# Altium integrated library TI Converter CODEC Voice-Band.IntLib: 99 symbols (part 6 of 7)
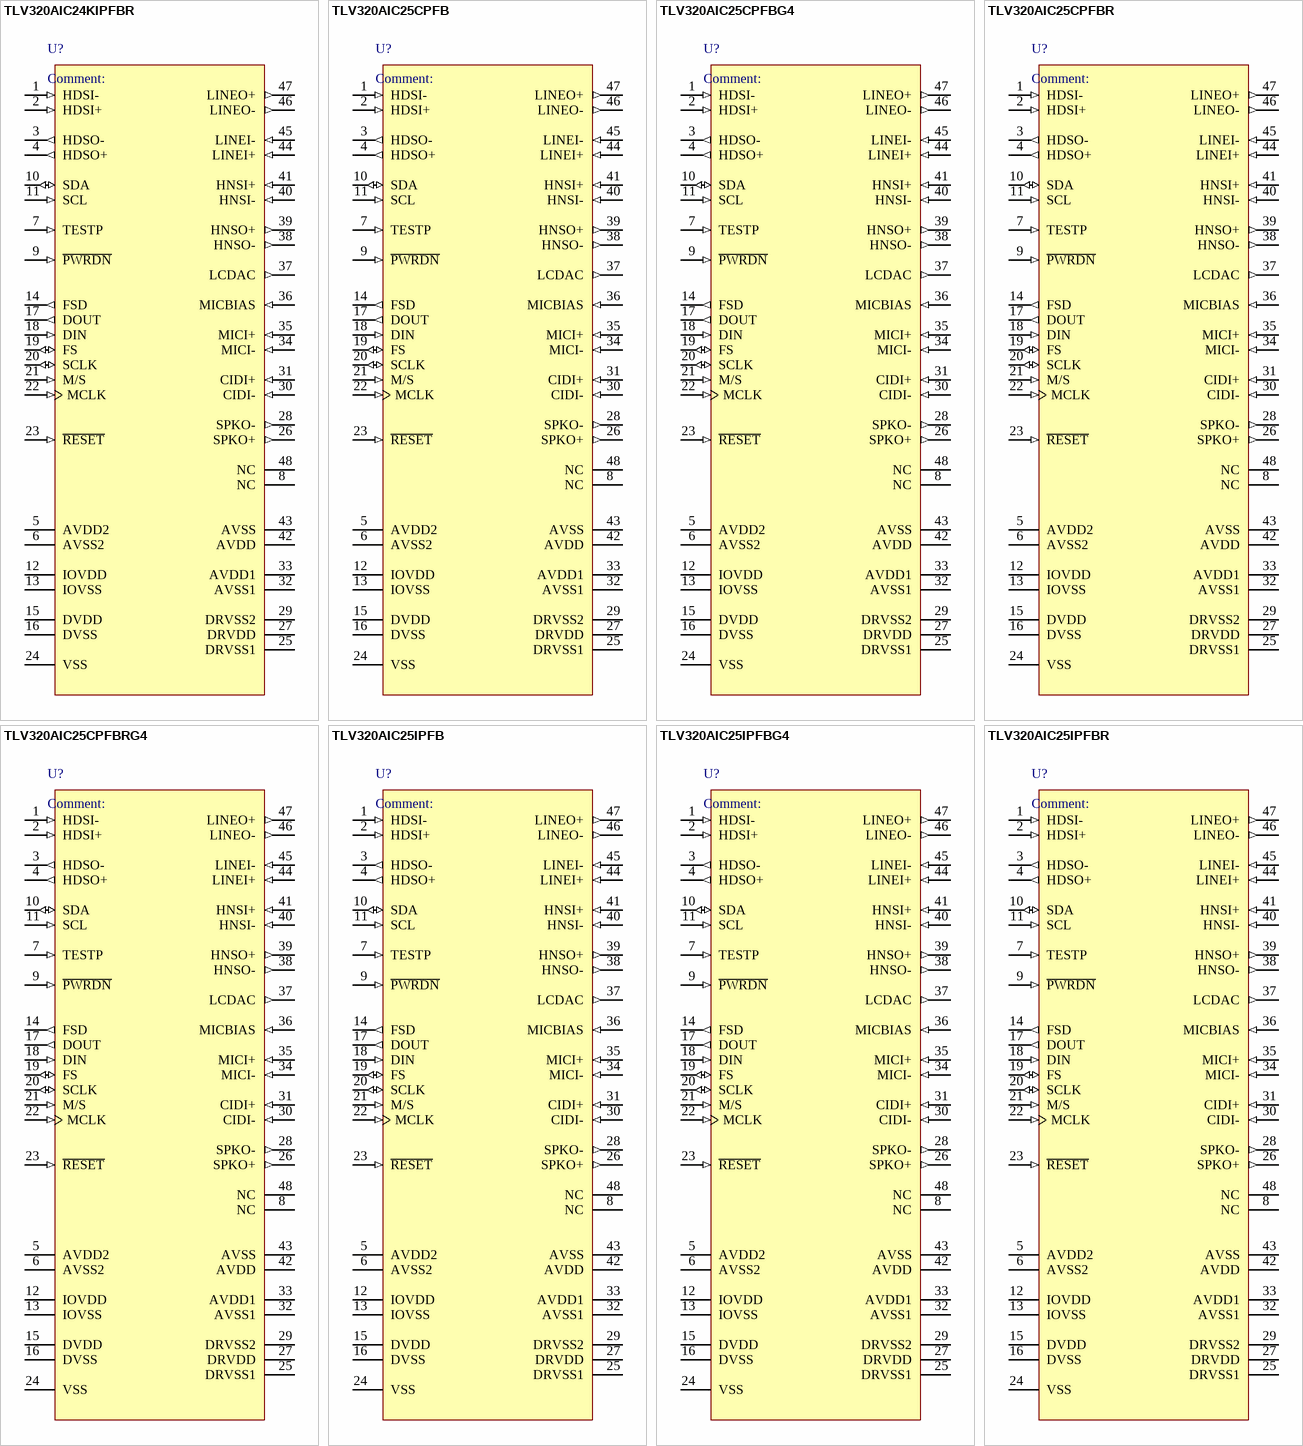
[diagram p14: symbols TLV320AIC24KIPFBR to TLV320AIC25IPFBR]

## TLV320AIC25CPFBRG4
designator U?
Low-Power, Highly-Integrated, Programmable 16-Bit, 26-KSPS Dual-Channel CODEC, 48-Pin TQFP, Commerical Grade; Published: 16-Dec-2005; LatestRevisionDate: 13-Apr-2006; LatestRevisionNote: IPC-7351 Footprint Added.; DatasheetVersion: 13-Sep-2005; PackageVersion: Jan-1998; PackageReference: PFB48; Publisher: Altium Limited; PackageDescription: 48-Pin Thin Plastic Quad Flat Pack 0.5 mm Pitch; Code_JEDEC: MS-026; ComponentLink1Description: Manufacturer Link; ComponentLink1URL: http://www.ti.com/; ComponentLink2Description: Datasheet; ComponentLink2URL: http://focus.ti.com/lit/ds/symlink/tlv320aic25.pdf
footprint PFB48_N (Thin QFP, 48-Leads, Body 7x7mm, Pitch 0.5mm, IPC Medium Density)
footprint PFB48_L (Thin QFP, 48-Leads, Body 7x7mm, Pitch 0.5mm, IPC High Density)
footprint PFB48_M (Thin QFP, 48-Leads, Body 7x7mm, Pitch 0.5mm, IPC Low Density)
pins: 1 HDSI- (in) "Head-set input. The Head-set input can be treated similar to the Line-input pins", 2 HDSI+ (in) "Head-set input. The Head-set input can be treated similar to the Line-input pins", 3 HDSO- (out) "150W output", 4 HDSO+ (out) "150W output", 5 AVDD2 (power) "Analog power supply", 6 AVSS2 (power) "Analog ground", 7 TESTP (in) "Test pin. Should be connected to digital ground.", 8 NC "Not connected", 9 ~{PWRDN} (in) "Power down", 10 SDA (io) "I2C/S2C data", 11 SCL (in) "I2C/S2C clock", 12 IOVDD (power) "I/O power supply", 13 IOVSS (power) "I/O ground", 14 FSD (out) "Frame sync delayed", 15 DVDD (power) "Digital supply (1.8 V)", 16 DVSS (power) "Digital ground", 17 DOUT (out) "Data OUT", 18 DIN (in) "Data IN", 19 FS (io) "Frame sync", 20 SCLK (io) "Serial clock", 21 M/S (in) "Master slave select applied to CODEC1 only. CODEC2 is always a slave.", 22 MCLK (in) "Master clock", 23 ~{RESET} (in) "Reset", 24 VSS (power) "Device ground. Typically this should be connected to the Analog Ground.", 25 DRVSS1 (power) "Driver ground", 26 SPKO+ (out) "8W output", 27 DRVDD (power) "Driver supply", 28 SPKO- (out) "8W output", 29 DRVSS2 (power) "Driver ground", 30 CIDI- (in) "Caller-ID input. The Caller-ID input can be treated similar to the Line-input pins", 31 CIDI+ (in) "Caller-ID input. The Caller-ID input can be treated similar to the Line-input pins", 32 AVSS1 (power) "Analog ground", 33 AVDD1 (power) "Analog supply", 34 MICI- (in) "Microphone input", 35 MICI+ (in) "Microphone input", 36 MICBIAS (in) "Microphone bias", 37 LCDAC (out) "6-Bit DAC output may be used to drive LCDAC", 38 HNSO- (out) "150-W output", 39 HNSO+ (out) "150-W output", 40 HNSI- (in) "Hand-set input. The Hand-set input can be treated similar to the Line-input pins", 41 HNSI+ (in) "Hand-set input. The Hand-set input can be treated similar to the Line-input pins", 42 AVDD (power) "Analog supply", 43 AVSS (power) "Analog ground", 44 LINEI+ (in) "Line input", 45 LINEI- (in) "Line input", 46 LINEO- (out) "600W output", 47 LINEO+ (out) "600W output", 48 NC "Not connected"

## TLV320AIC25IPFB
designator U?
Low-Power, Highly-Integrated, Programmable 16-Bit, 26-KSPS Dual-Channel CODEC, 48-Pin TQFP, Industrial Grade; Published: 16-Dec-2005; LatestRevisionDate: 13-Apr-2006; LatestRevisionNote: IPC-7351 Footprint Added.; DatasheetVersion: 13-Sep-2005; PackageVersion: Jan-1998; PackageReference: PFB48; Publisher: Altium Limited; PackageDescription: 48-Pin Thin Plastic Quad Flat Pack 0.5 mm Pitch; Code_JEDEC: MS-026; ComponentLink1Description: Manufacturer Link; ComponentLink1URL: http://www.ti.com/; ComponentLink2Description: Datasheet; ComponentLink2URL: http://focus.ti.com/lit/ds/symlink/tlv320aic25.pdf
footprint PFB48_N (Thin QFP, 48-Leads, Body 7x7mm, Pitch 0.5mm, IPC Medium Density)
footprint PFB48_L (Thin QFP, 48-Leads, Body 7x7mm, Pitch 0.5mm, IPC High Density)
footprint PFB48_M (Thin QFP, 48-Leads, Body 7x7mm, Pitch 0.5mm, IPC Low Density)
pins: 1 HDSI- (in) "Head-set input. The Head-set input can be treated similar to the Line-input pins", 2 HDSI+ (in) "Head-set input. The Head-set input can be treated similar to the Line-input pins", 3 HDSO- (out) "150W output", 4 HDSO+ (out) "150W output", 5 AVDD2 (power) "Analog power supply", 6 AVSS2 (power) "Analog ground", 7 TESTP (in) "Test pin. Should be connected to digital ground.", 8 NC "Not connected", 9 ~{PWRDN} (in) "Power down", 10 SDA (io) "I2C/S2C data", 11 SCL (in) "I2C/S2C clock", 12 IOVDD (power) "I/O power supply", 13 IOVSS (power) "I/O ground", 14 FSD (out) "Frame sync delayed", 15 DVDD (power) "Digital supply (1.8 V)", 16 DVSS (power) "Digital ground", 17 DOUT (out) "Data OUT", 18 DIN (in) "Data IN", 19 FS (io) "Frame sync", 20 SCLK (io) "Serial clock", 21 M/S (in) "Master slave select applied to CODEC1 only. CODEC2 is always a slave.", 22 MCLK (in) "Master clock", 23 ~{RESET} (in) "Reset", 24 VSS (power) "Device ground. Typically this should be connected to the Analog Ground.", 25 DRVSS1 (power) "Driver ground", 26 SPKO+ (out) "8W output", 27 DRVDD (power) "Driver supply", 28 SPKO- (out) "8W output", 29 DRVSS2 (power) "Driver ground", 30 CIDI- (in) "Caller-ID input. The Caller-ID input can be treated similar to the Line-input pins", 31 CIDI+ (in) "Caller-ID input. The Caller-ID input can be treated similar to the Line-input pins", 32 AVSS1 (power) "Analog ground", 33 AVDD1 (power) "Analog supply", 34 MICI- (in) "Microphone input", 35 MICI+ (in) "Microphone input", 36 MICBIAS (in) "Microphone bias", 37 LCDAC (out) "6-Bit DAC output may be used to drive LCDAC", 38 HNSO- (out) "150-W output", 39 HNSO+ (out) "150-W output", 40 HNSI- (in) "Hand-set input. The Hand-set input can be treated similar to the Line-input pins", 41 HNSI+ (in) "Hand-set input. The Hand-set input can be treated similar to the Line-input pins", 42 AVDD (power) "Analog supply", 43 AVSS (power) "Analog ground", 44 LINEI+ (in) "Line input", 45 LINEI- (in) "Line input", 46 LINEO- (out) "600W output", 47 LINEO+ (out) "600W output", 48 NC "Not connected"

## TLV320AIC25IPFBG4
designator U?
Low-Power, Highly-Integrated, Programmable 16-Bit, 26-KSPS Dual-Channel CODEC, 48-Pin TQFP, Industrial Grade; Published: 16-Dec-2005; LatestRevisionDate: 13-Apr-2006; LatestRevisionNote: IPC-7351 Footprint Added.; DatasheetVersion: 13-Sep-2005; PackageVersion: Jan-1998; PackageReference: PFB48; Publisher: Altium Limited; PackageDescription: 48-Pin Thin Plastic Quad Flat Pack 0.5 mm Pitch; Code_JEDEC: MS-026; ComponentLink1Description: Manufacturer Link; ComponentLink1URL: http://www.ti.com/; ComponentLink2Description: Datasheet; ComponentLink2URL: http://focus.ti.com/lit/ds/symlink/tlv320aic25.pdf
footprint PFB48_N (Thin QFP, 48-Leads, Body 7x7mm, Pitch 0.5mm, IPC Medium Density)
footprint PFB48_L (Thin QFP, 48-Leads, Body 7x7mm, Pitch 0.5mm, IPC High Density)
footprint PFB48_M (Thin QFP, 48-Leads, Body 7x7mm, Pitch 0.5mm, IPC Low Density)
pins: 1 HDSI- (in) "Head-set input. The Head-set input can be treated similar to the Line-input pins", 2 HDSI+ (in) "Head-set input. The Head-set input can be treated similar to the Line-input pins", 3 HDSO- (out) "150W output", 4 HDSO+ (out) "150W output", 5 AVDD2 (power) "Analog power supply", 6 AVSS2 (power) "Analog ground", 7 TESTP (in) "Test pin. Should be connected to digital ground.", 8 NC "Not connected", 9 ~{PWRDN} (in) "Power down", 10 SDA (io) "I2C/S2C data", 11 SCL (in) "I2C/S2C clock", 12 IOVDD (power) "I/O power supply", 13 IOVSS (power) "I/O ground", 14 FSD (out) "Frame sync delayed", 15 DVDD (power) "Digital supply (1.8 V)", 16 DVSS (power) "Digital ground", 17 DOUT (out) "Data OUT", 18 DIN (in) "Data IN", 19 FS (io) "Frame sync", 20 SCLK (io) "Serial clock", 21 M/S (in) "Master slave select applied to CODEC1 only. CODEC2 is always a slave.", 22 MCLK (in) "Master clock", 23 ~{RESET} (in) "Reset", 24 VSS (power) "Device ground. Typically this should be connected to the Analog Ground.", 25 DRVSS1 (power) "Driver ground", 26 SPKO+ (out) "8W output", 27 DRVDD (power) "Driver supply", 28 SPKO- (out) "8W output", 29 DRVSS2 (power) "Driver ground", 30 CIDI- (in) "Caller-ID input. The Caller-ID input can be treated similar to the Line-input pins", 31 CIDI+ (in) "Caller-ID input. The Caller-ID input can be treated similar to the Line-input pins", 32 AVSS1 (power) "Analog ground", 33 AVDD1 (power) "Analog supply", 34 MICI- (in) "Microphone input", 35 MICI+ (in) "Microphone input", 36 MICBIAS (in) "Microphone bias", 37 LCDAC (out) "6-Bit DAC output may be used to drive LCDAC", 38 HNSO- (out) "150-W output", 39 HNSO+ (out) "150-W output", 40 HNSI- (in) "Hand-set input. The Hand-set input can be treated similar to the Line-input pins", 41 HNSI+ (in) "Hand-set input. The Hand-set input can be treated similar to the Line-input pins", 42 AVDD (power) "Analog supply", 43 AVSS (power) "Analog ground", 44 LINEI+ (in) "Line input", 45 LINEI- (in) "Line input", 46 LINEO- (out) "600W output", 47 LINEO+ (out) "600W output", 48 NC "Not connected"

## TLV320AIC25IPFBR
designator U?
Low-Power, Highly-Integrated, Programmable 16-Bit, 26-KSPS Dual-Channel CODEC, 48-Pin TQFP, Industrial Grade; Published: 16-Dec-2005; LatestRevisionDate: 13-Apr-2006; LatestRevisionNote: IPC-7351 Footprint Added.; DatasheetVersion: 13-Sep-2005; PackageVersion: Jan-1998; PackageReference: PFB48; Publisher: Altium Limited; PackageDescription: 48-Pin Thin Plastic Quad Flat Pack 0.5 mm Pitch; Code_JEDEC: MS-026; ComponentLink1Description: Manufacturer Link; ComponentLink1URL: http://www.ti.com/; ComponentLink2Description: Datasheet; ComponentLink2URL: http://focus.ti.com/lit/ds/symlink/tlv320aic25.pdf
footprint PFB48_N (Thin QFP, 48-Leads, Body 7x7mm, Pitch 0.5mm, IPC Medium Density)
footprint PFB48_L (Thin QFP, 48-Leads, Body 7x7mm, Pitch 0.5mm, IPC High Density)
footprint PFB48_M (Thin QFP, 48-Leads, Body 7x7mm, Pitch 0.5mm, IPC Low Density)
pins: 1 HDSI- (in) "Head-set input. The Head-set input can be treated similar to the Line-input pins", 2 HDSI+ (in) "Head-set input. The Head-set input can be treated similar to the Line-input pins", 3 HDSO- (out) "150W output", 4 HDSO+ (out) "150W output", 5 AVDD2 (power) "Analog power supply", 6 AVSS2 (power) "Analog ground", 7 TESTP (in) "Test pin. Should be connected to digital ground.", 8 NC "Not connected", 9 ~{PWRDN} (in) "Power down", 10 SDA (io) "I2C/S2C data", 11 SCL (in) "I2C/S2C clock", 12 IOVDD (power) "I/O power supply", 13 IOVSS (power) "I/O ground", 14 FSD (out) "Frame sync delayed", 15 DVDD (power) "Digital supply (1.8 V)", 16 DVSS (power) "Digital ground", 17 DOUT (out) "Data OUT", 18 DIN (in) "Data IN", 19 FS (io) "Frame sync", 20 SCLK (io) "Serial clock", 21 M/S (in) "Master slave select applied to CODEC1 only. CODEC2 is always a slave.", 22 MCLK (in) "Master clock", 23 ~{RESET} (in) "Reset", 24 VSS (power) "Device ground. Typically this should be connected to the Analog Ground.", 25 DRVSS1 (power) "Driver ground", 26 SPKO+ (out) "8W output", 27 DRVDD (power) "Driver supply", 28 SPKO- (out) "8W output", 29 DRVSS2 (power) "Driver ground", 30 CIDI- (in) "Caller-ID input. The Caller-ID input can be treated similar to the Line-input pins", 31 CIDI+ (in) "Caller-ID input. The Caller-ID input can be treated similar to the Line-input pins", 32 AVSS1 (power) "Analog ground", 33 AVDD1 (power) "Analog supply", 34 MICI- (in) "Microphone input", 35 MICI+ (in) "Microphone input", 36 MICBIAS (in) "Microphone bias", 37 LCDAC (out) "6-Bit DAC output may be used to drive LCDAC", 38 HNSO- (out) "150-W output", 39 HNSO+ (out) "150-W output", 40 HNSI- (in) "Hand-set input. The Hand-set input can be treated similar to the Line-input pins", 41 HNSI+ (in) "Hand-set input. The Hand-set input can be treated similar to the Line-input pins", 42 AVDD (power) "Analog supply", 43 AVSS (power) "Analog ground", 44 LINEI+ (in) "Line input", 45 LINEI- (in) "Line input", 46 LINEO- (out) "600W output", 47 LINEO+ (out) "600W output", 48 NC "Not connected"

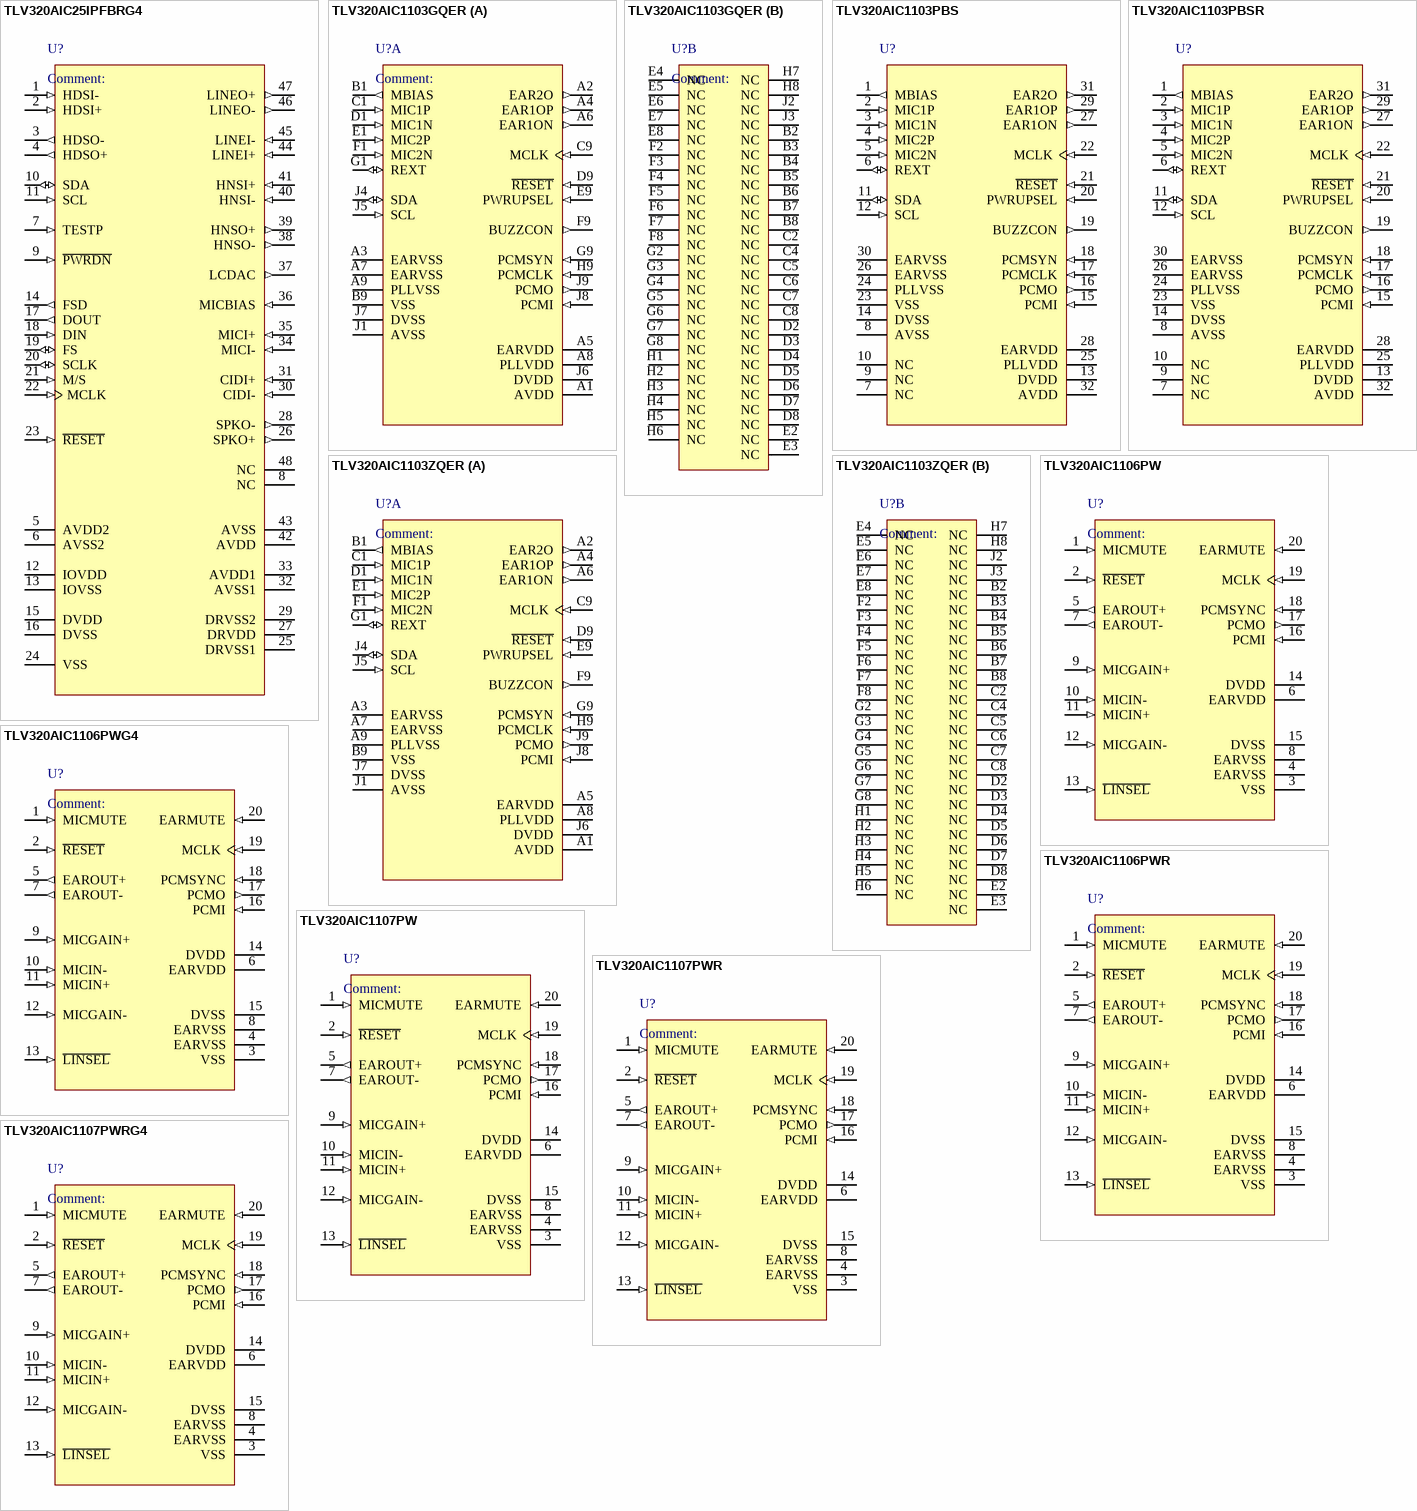
[diagram p8: symbols TLV320AIC25IPFBRG4 to TLV320AIC1107PWRG4]

## TLV320AIC25IPFBRG4
designator U?
Low-Power, Highly-Integrated, Programmable 16-Bit, 26-KSPS Dual-Channel CODEC, 48-Pin TQFP, Industrial Grade; Published: 16-Dec-2005; LatestRevisionDate: 13-Apr-2006; LatestRevisionNote: IPC-7351 Footprint Added.; DatasheetVersion: 13-Sep-2005; PackageVersion: Jan-1998; PackageReference: PFB48; Publisher: Altium Limited; PackageDescription: 48-Pin Thin Plastic Quad Flat Pack 0.5 mm Pitch; Code_JEDEC: MS-026; ComponentLink1Description: Manufacturer Link; ComponentLink1URL: http://www.ti.com/; ComponentLink2Description: Datasheet; ComponentLink2URL: http://focus.ti.com/lit/ds/symlink/tlv320aic25.pdf
footprint PFB48_N (Thin QFP, 48-Leads, Body 7x7mm, Pitch 0.5mm, IPC Medium Density)
footprint PFB48_L (Thin QFP, 48-Leads, Body 7x7mm, Pitch 0.5mm, IPC High Density)
footprint PFB48_M (Thin QFP, 48-Leads, Body 7x7mm, Pitch 0.5mm, IPC Low Density)
pins: 1 HDSI- (in) "Head-set input. The Head-set input can be treated similar to the Line-input pins", 2 HDSI+ (in) "Head-set input. The Head-set input can be treated similar to the Line-input pins", 3 HDSO- (out) "150W output", 4 HDSO+ (out) "150W output", 5 AVDD2 (power) "Analog power supply", 6 AVSS2 (power) "Analog ground", 7 TESTP (in) "Test pin. Should be connected to digital ground.", 8 NC "Not connected", 9 ~{PWRDN} (in) "Power down", 10 SDA (io) "I2C/S2C data", 11 SCL (in) "I2C/S2C clock", 12 IOVDD (power) "I/O power supply", 13 IOVSS (power) "I/O ground", 14 FSD (out) "Frame sync delayed", 15 DVDD (power) "Digital supply (1.8 V)", 16 DVSS (power) "Digital ground", 17 DOUT (out) "Data OUT", 18 DIN (in) "Data IN", 19 FS (io) "Frame sync", 20 SCLK (io) "Serial clock", 21 M/S (in) "Master slave select applied to CODEC1 only. CODEC2 is always a slave.", 22 MCLK (in) "Master clock", 23 ~{RESET} (in) "Reset", 24 VSS (power) "Device ground. Typically this should be connected to the Analog Ground.", 25 DRVSS1 (power) "Driver ground", 26 SPKO+ (out) "8W output", 27 DRVDD (power) "Driver supply", 28 SPKO- (out) "8W output", 29 DRVSS2 (power) "Driver ground", 30 CIDI- (in) "Caller-ID input. The Caller-ID input can be treated similar to the Line-input pins", 31 CIDI+ (in) "Caller-ID input. The Caller-ID input can be treated similar to the Line-input pins", 32 AVSS1 (power) "Analog ground", 33 AVDD1 (power) "Analog supply", 34 MICI- (in) "Microphone input", 35 MICI+ (in) "Microphone input", 36 MICBIAS (in) "Microphone bias", 37 LCDAC (out) "6-Bit DAC output may be used to drive LCDAC", 38 HNSO- (out) "150-W output", 39 HNSO+ (out) "150-W output", 40 HNSI- (in) "Hand-set input. The Hand-set input can be treated similar to the Line-input pins", 41 HNSI+ (in) "Hand-set input. The Hand-set input can be treated similar to the Line-input pins", 42 AVDD (power) "Analog supply", 43 AVSS (power) "Analog ground", 44 LINEI+ (in) "Line input", 45 LINEI- (in) "Line input", 46 LINEO- (out) "600W output", 47 LINEO+ (out) "600W output", 48 NC "Not connected"

## TLV320AIC1103GQER
designator U?
Programmable PCM CODEC With Microphone Amps & Speaker Driver, 80-pin MicroStar Junior VFBGA; Published: 16-Dec-2005; LatestRevisionDate: 13-Apr-2006; LatestRevisionNote: IPC-7351 Footprint Added.; DatasheetVersion: 03-May-2005; PackageVersion: Oct-2005; PackageReference: GQE80; Publisher: Altium Limited; PackageDescription: 80-Ball Plastic Ball Grid Array 0.5 mm Pitch; Code_JEDEC: MO-225; ComponentLink1Description: Manufacturer Link; ComponentLink1URL: http://www.ti.com/; ComponentLink2Description: Datasheet; ComponentLink2URL: http://focus.ti.com/lit/ds/symlink/tlv320aic1103.pdf
footprint GQE80 (BGA, 80-Leads, Body 5x5mm, Pitch 0.5mm)
part A pins: A1 AVDD (power) "Analog positive power supply", A2 EAR2O (out) "Earphone 2 amplifier output", A3 EARVSS (power) "Analog negative power supply for the earphone amplifiers", A4 EAR1OP (out) "Earphone 1 amplifier output (+)", A5 EARVDD (power) "Analog positive power supply for the earphone amplifiers", A6 EAR1ON (out) "Earphone 1 amplifier output (-)", A7 EARVSS (power) "Analog negative power supply for the earphone amplifiers", A8 PLLVDD (power) "PLL digital power supply", A9 PLLVSS (power) "PLL negative power supply", B1 MBIAS (out) "Microphone bias supply output, no decoupling capacitors", B9 VSS (power) "Ground return for bandgap internal reference", C1 MIC1P (in) "MIC1 input (+)", C9 MCLK (in) "Master system clock input (2.048 MHz) (digital)", D1 MIC1N (in) "MIC1 input (-)", D9 ~{RESET} (in) "Active low reset", E1 MIC2P (in) "MIC2 input (+)", E9 PWRUPSEL (in) "Selects the power-up default mode", F1 MIC2N (in) "MIC2 input (-)", F9 BUZZCON (out) "Buzzer output, a pulse-density modulated signal to apply to external buzzer driver", G1 REXT (io) "Internal reference current setting terminal", G9 PCMSYN (in) "PCM frame synchronization", H9 PCMCLK (in) "PCM data clock", J1 AVSS (power) "Analog negative power supply", J4 SDA (io) "I2C-bus serial address/data input/output", J5 SCL (in) "I2C-bus serial clock", J6 DVDD (power) "Digital positive power supply", J7 DVSS (power) "Digital negative power supply", J8 PCMI (in) "Receive PCM input", J9 PCMO (out) "Transmit PCM output"
part B pins: B2 NC "No connection", B3 NC "No connection", B4 NC "No connection", B5 NC "No connection", B6 NC "No connection", B7 NC "No connection", B8 NC "No connection", C2 NC "No connection", C4 NC "No connection", C5 NC "No connection", C6 NC "No connection", C7 NC "No connection", C8 NC "No connection", D2 NC "No connection", D3 NC "No connection", D4 NC "No connection", D5 NC "No connection", D6 NC "No connection", D7 NC "No connection", D8 NC "No connection", E2 NC "No connection", E3 NC "No connection", E4 NC "No connection", E5 NC "No connection", E6 NC "No connection", E7 NC "No connection", E8 NC "No connection", F2 NC "No connection", F3 NC "No connection", F4 NC "No connection", F5 NC "No connection", F6 NC "No connection", F7 NC "No connection", F8 NC "No connection", G2 NC "No connection", G3 NC "No connection", G4 NC "No connection", G5 NC "No connection", G6 NC "No connection", G7 NC "No connection", G8 NC "No connection", H1 NC "No connection", H2 NC "No connection", H3 NC "No connection", H4 NC "No connection", H5 NC "No connection", H6 NC "No connection", H7 NC "No connection", H8 NC "No connection", J2 NC "No connection", J3 NC "No connection"

## TLV320AIC1103PBS
designator U?
Programmable PCM CODEC With Microphone Amps & Speaker Driver, 32-Pin TQFP; Published: 16-Dec-2005; LatestRevisionDate: 13-Apr-2006; LatestRevisionNote: IPC-7351 Footprint Added.; DatasheetVersion: 03-May-2005; PackageVersion: Nov-1995; PackageReference: PBS32; Publisher: Altium Limited; PackageDescription: 32-Pin Thin Plastic Quad Flat Pack 0.5 mm Pitch; Code_JEDEC: MS-026-AAA; ComponentLink1Description: Manufacturer Link; ComponentLink1URL: http://www.ti.com/; ComponentLink2Description: Datasheet; ComponentLink2URL: http://focus.ti.com/lit/ds/symlink/tlv320aic1103.pdf
footprint PBS32_N (Thin QFP, 32-Leads, Body 5x5mm, Pitch 0.5mm, IPC Medium Density)
footprint PBS32_L (Thin QFP, 32-Leads, Body 5x5mm, Pitch 0.5mm, IPC High Density)
footprint PBS32_M (Thin QFP, 32-Leads, Body 5x5mm, Pitch 0.5mm, IPC Low Density)
pins: 1 MBIAS (out) "Microphone bias supply output, no decoupling capacitors", 2 MIC1P (in) "MIC1 input (+)", 3 MIC1N (in) "MIC1 input (-)", 4 MIC2P (in) "MIC2 input (+)", 5 MIC2N (in) "MIC2 input (-)", 6 REXT (io) "Internal reference current setting terminal", 7 NC "No connection", 8 AVSS (power) "Analog negative power supply", 9 NC "No connection", 10 NC "No connection", 11 SDA (io) "I2C-bus serial address/data input/output", 12 SCL (in) "I2C-bus serial clock", 13 DVDD (power) "Digital positive power supply", 14 DVSS (power) "Digital negative power supply", 15 PCMI (in) "Receive PCM input", 16 PCMO (out) "Transmit PCM output", 17 PCMCLK (in) "PCM data clock", 18 PCMSYN (in) "PCM frame synchronization", 19 BUZZCON (out) "Buzzer output, a pulse-density modulated signal to apply to external buzzer driver", 20 PWRUPSEL (in) "Selects the power-up default mode", 21 ~{RESET} (in) "Active low reset", 22 MCLK (in) "Master system clock input (2.048 MHz) (digital)", 23 VSS (power) "Ground return for bandgap internal reference", 24 PLLVSS (power) "PLL negative power supply", 25 PLLVDD (power) "PLL digital power supply", 26 EARVSS (power) "Analog negative power supply for the earphone amplifiers", 27 EAR1ON (out) "Earphone 1 amplifier output (-)", 28 EARVDD (power) "Analog positive power supply for the earphone amplifiers", 29 EAR1OP (out) "Earphone 1 amplifier output (+)", 30 EARVSS (power) "Analog negative power supply for the earphone amplifiers", 31 EAR2O (out) "Earphone 2 amplifier output", 32 AVDD (power) "Analog positive power supply"

## TLV320AIC1103PBSR
designator U?
Programmable PCM CODEC With Microphone Amps & Speaker Driver, 32-Pin TQFP; Published: 16-Dec-2005; LatestRevisionDate: 13-Apr-2006; LatestRevisionNote: IPC-7351 Footprint Added.; DatasheetVersion: 03-May-2005; PackageVersion: Nov-1995; PackageReference: PBS32; Publisher: Altium Limited; PackageDescription: 32-Pin Thin Plastic Quad Flat Pack 0.5 mm Pitch; Code_JEDEC: MS-026-AAA; ComponentLink1Description: Manufacturer Link; ComponentLink1URL: http://www.ti.com/; ComponentLink2Description: Datasheet; ComponentLink2URL: http://focus.ti.com/lit/ds/symlink/tlv320aic1103.pdf
footprint PBS32_N (Thin QFP, 32-Leads, Body 5x5mm, Pitch 0.5mm, IPC Medium Density)
footprint PBS32_L (Thin QFP, 32-Leads, Body 5x5mm, Pitch 0.5mm, IPC High Density)
footprint PBS32_M (Thin QFP, 32-Leads, Body 5x5mm, Pitch 0.5mm, IPC Low Density)
pins: 1 MBIAS (out) "Microphone bias supply output, no decoupling capacitors", 2 MIC1P (in) "MIC1 input (+)", 3 MIC1N (in) "MIC1 input (-)", 4 MIC2P (in) "MIC2 input (+)", 5 MIC2N (in) "MIC2 input (-)", 6 REXT (io) "Internal reference current setting terminal", 7 NC "No connection", 8 AVSS (power) "Analog negative power supply", 9 NC "No connection", 10 NC "No connection", 11 SDA (io) "I2C-bus serial address/data input/output", 12 SCL (in) "I2C-bus serial clock", 13 DVDD (power) "Digital positive power supply", 14 DVSS (power) "Digital negative power supply", 15 PCMI (in) "Receive PCM input", 16 PCMO (out) "Transmit PCM output", 17 PCMCLK (in) "PCM data clock", 18 PCMSYN (in) "PCM frame synchronization", 19 BUZZCON (out) "Buzzer output, a pulse-density modulated signal to apply to external buzzer driver", 20 PWRUPSEL (in) "Selects the power-up default mode", 21 ~{RESET} (in) "Active low reset", 22 MCLK (in) "Master system clock input (2.048 MHz) (digital)", 23 VSS (power) "Ground return for bandgap internal reference", 24 PLLVSS (power) "PLL negative power supply", 25 PLLVDD (power) "PLL digital power supply", 26 EARVSS (power) "Analog negative power supply for the earphone amplifiers", 27 EAR1ON (out) "Earphone 1 amplifier output (-)", 28 EARVDD (power) "Analog positive power supply for the earphone amplifiers", 29 EAR1OP (out) "Earphone 1 amplifier output (+)", 30 EARVSS (power) "Analog negative power supply for the earphone amplifiers", 31 EAR2O (out) "Earphone 2 amplifier output", 32 AVDD (power) "Analog positive power supply"

## TLV320AIC1103ZQER
designator U?
Programmable PCM CODEC With Microphone Amps & Speaker Driver, 80-pin MicroStar Junior VFBGA; Published: 16-Dec-2005; LatestRevisionDate: 13-Apr-2006; LatestRevisionNote: IPC-7351 Footprint Added.; DatasheetVersion: 03-May-2005; PackageVersion: Oct-2005; PackageReference: ZQE80; Publisher: Altium Limited; PackageDescription: 80-Ball Plastic Ball Grid Array 0.5 mm Pitch; Code_JEDEC: MO-225; ComponentLink1Description: Manufacturer Link; ComponentLink1URL: http://www.ti.com/; ComponentLink2Description: Datasheet; ComponentLink2URL: http://focus.ti.com/lit/ds/symlink/tlv320aic1103.pdf
footprint ZQE80 (BGA, 80-Leads, Body 5x5mm, Pitch 0.5mm)
part A pins: A1 AVDD (power) "Analog positive power supply", A2 EAR2O (out) "Earphone 2 amplifier output", A3 EARVSS (power) "Analog negative power supply for the earphone amplifiers", A4 EAR1OP (out) "Earphone 1 amplifier output (+)", A5 EARVDD (power) "Analog positive power supply for the earphone amplifiers", A6 EAR1ON (out) "Earphone 1 amplifier output (-)", A7 EARVSS (power) "Analog negative power supply for the earphone amplifiers", A8 PLLVDD (power) "PLL digital power supply", A9 PLLVSS (power) "PLL negative power supply", B1 MBIAS (out) "Microphone bias supply output, no decoupling capacitors", B9 VSS (power) "Ground return for bandgap internal reference", C1 MIC1P (in) "MIC1 input (+)", C9 MCLK (in) "Master system clock input (2.048 MHz) (digital)", D1 MIC1N (in) "MIC1 input (-)", D9 ~{RESET} (in) "Active low reset", E1 MIC2P (in) "MIC2 input (+)", E9 PWRUPSEL (in) "Selects the power-up default mode", F1 MIC2N (in) "MIC2 input (-)", F9 BUZZCON (out) "Buzzer output, a pulse-density modulated signal to apply to external buzzer driver", G1 REXT (io) "Internal reference current setting terminal", G9 PCMSYN (in) "PCM frame synchronization", H9 PCMCLK (in) "PCM data clock", J1 AVSS (power) "Analog negative power supply", J4 SDA (io) "I2C-bus serial address/data input/output", J5 SCL (in) "I2C-bus serial clock", J6 DVDD (power) "Digital positive power supply", J7 DVSS (power) "Digital negative power supply", J8 PCMI (in) "Receive PCM input", J9 PCMO (out) "Transmit PCM output"
part B pins: B2 NC "No connection", B3 NC "No connection", B4 NC "No connection", B5 NC "No connection", B6 NC "No connection", B7 NC "No connection", B8 NC "No connection", C2 NC "No connection", C4 NC "No connection", C5 NC "No connection", C6 NC "No connection", C7 NC "No connection", C8 NC "No connection", D2 NC "No connection", D3 NC "No connection", D4 NC "No connection", D5 NC "No connection", D6 NC "No connection", D7 NC "No connection", D8 NC "No connection", E2 NC "No connection", E3 NC "No connection", E4 NC "No connection", E5 NC "No connection", E6 NC "No connection", E7 NC "No connection", E8 NC "No connection", F2 NC "No connection", F3 NC "No connection", F4 NC "No connection", F5 NC "No connection", F6 NC "No connection", F7 NC "No connection", F8 NC "No connection", G2 NC "No connection", G3 NC "No connection", G4 NC "No connection", G5 NC "No connection", G6 NC "No connection", G7 NC "No connection", G8 NC "No connection", H1 NC "No connection", H2 NC "No connection", H3 NC "No connection", H4 NC "No connection", H5 NC "No connection", H6 NC "No connection", H7 NC "No connection", H8 NC "No connection", J2 NC "No connection", J3 NC "No connection"

## TLV320AIC1106PW
designator U?
PCM CODEC With Microphone Amps & Speaker Driver, 20-Pin TSSOP; Published: 16-Dec-2005; DatasheetVersion: 13-Sep-2005; PackageVersion: Feb-1999; PackageReference: PW020; Publisher: Altium Limited; PackageDescription: Shrink Small Outline; 20 Leads; Body Width 4.4 mm; Pitch 0.65 mm; ComponentLink1Description: Manufacturer Link; ComponentLink1URL: http://www.ti.com/; ComponentLink2Description: Datasheet; ComponentLink2URL: http://focus.ti.com/lit/ds/symlink/tlv320aic1106.pdf
footprint PW020 (Shrink Small Outline; 20 Leads; Body Width 4.4 mm; Pitch 0.65 mm)
pins: 1 MICMUTE (in) "Microphone mute", 2 ~{RESET} (in) "Active-low reset", 3 VSS (power) "Ground return for band-gap internal reference", 4 EARVSS (power) "Analog ground for EAROUT+", 5 EAROUT+ (out) "Earphone amplifier positive output", 6 EARVDD (power) "Analog positive power supply for the earphone amplifiers", 7 EAROUT- (out) "Earphone amplifier negative output", 8 EARVSS (power) "Analog ground for EAROUT-", 9 MICGAIN+ (in) "Microphone gain positive feedback", 10 MICIN- (in) "Microphone negative input (-)", 11 MICIN+ (in) "Microphone positive input (+)", 12 MICGAIN- (in) "Microphone gain negative feedback", 13 ~{LINSEL} (in) "Companding enable", 14 DVDD (power) "Digital positive power supply", 15 DVSS (power) "Digital negative power supply", 16 PCMI (in) "Receive PCM input", 17 PCMO (out) "Transmit PCM output", 18 PCMSYNC (in) "PCM frame synchronization", 19 MCLK (in) "Master system clock input (2.048 MHz) (digital)", 20 EARMUTE (in) "Earphone mute"

## TLV320AIC1106PWG4
designator U?
PCM CODEC With Microphone Amps & Speaker Driver, 20-Pin TSSOP; Published: 16-Dec-2005; DatasheetVersion: 13-Sep-2005; PackageVersion: Feb-1999; PackageReference: PW020; Publisher: Altium Limited; PackageDescription: Shrink Small Outline; 20 Leads; Body Width 4.4 mm; Pitch 0.65 mm; ComponentLink1Description: Manufacturer Link; ComponentLink1URL: http://www.ti.com/; ComponentLink2Description: Datasheet; ComponentLink2URL: http://focus.ti.com/lit/ds/symlink/tlv320aic1106.pdf
footprint PW020 (Shrink Small Outline; 20 Leads; Body Width 4.4 mm; Pitch 0.65 mm)
pins: 1 MICMUTE (in) "Microphone mute", 2 ~{RESET} (in) "Active-low reset", 3 VSS (power) "Ground return for band-gap internal reference", 4 EARVSS (power) "Analog ground for EAROUT+", 5 EAROUT+ (out) "Earphone amplifier positive output", 6 EARVDD (power) "Analog positive power supply for the earphone amplifiers", 7 EAROUT- (out) "Earphone amplifier negative output", 8 EARVSS (power) "Analog ground for EAROUT-", 9 MICGAIN+ (in) "Microphone gain positive feedback", 10 MICIN- (in) "Microphone negative input (-)", 11 MICIN+ (in) "Microphone positive input (+)", 12 MICGAIN- (in) "Microphone gain negative feedback", 13 ~{LINSEL} (in) "Companding enable", 14 DVDD (power) "Digital positive power supply", 15 DVSS (power) "Digital negative power supply", 16 PCMI (in) "Receive PCM input", 17 PCMO (out) "Transmit PCM output", 18 PCMSYNC (in) "PCM frame synchronization", 19 MCLK (in) "Master system clock input (2.048 MHz) (digital)", 20 EARMUTE (in) "Earphone mute"

## TLV320AIC1106PWR
designator U?
PCM CODEC With Microphone Amps & Speaker Driver, 20-Pin TSSOP; Published: 16-Dec-2005; DatasheetVersion: 13-Sep-2005; PackageVersion: Feb-1999; PackageReference: PW020; Publisher: Altium Limited; PackageDescription: Shrink Small Outline; 20 Leads; Body Width 4.4 mm; Pitch 0.65 mm; ComponentLink1Description: Manufacturer Link; ComponentLink1URL: http://www.ti.com/; ComponentLink2Description: Datasheet; ComponentLink2URL: http://focus.ti.com/lit/ds/symlink/tlv320aic1106.pdf
footprint PW020 (Shrink Small Outline; 20 Leads; Body Width 4.4 mm; Pitch 0.65 mm)
pins: 1 MICMUTE (in) "Microphone mute", 2 ~{RESET} (in) "Active-low reset", 3 VSS (power) "Ground return for band-gap internal reference", 4 EARVSS (power) "Analog ground for EAROUT+", 5 EAROUT+ (out) "Earphone amplifier positive output", 6 EARVDD (power) "Analog positive power supply for the earphone amplifiers", 7 EAROUT- (out) "Earphone amplifier negative output", 8 EARVSS (power) "Analog ground for EAROUT-", 9 MICGAIN+ (in) "Microphone gain positive feedback", 10 MICIN- (in) "Microphone negative input (-)", 11 MICIN+ (in) "Microphone positive input (+)", 12 MICGAIN- (in) "Microphone gain negative feedback", 13 ~{LINSEL} (in) "Companding enable", 14 DVDD (power) "Digital positive power supply", 15 DVSS (power) "Digital negative power supply", 16 PCMI (in) "Receive PCM input", 17 PCMO (out) "Transmit PCM output", 18 PCMSYNC (in) "PCM frame synchronization", 19 MCLK (in) "Master system clock input (2.048 MHz) (digital)", 20 EARMUTE (in) "Earphone mute"

## TLV320AIC1107PW
designator U?
PCM CODEC With Microphone Amps & Speaker Driver, 20-Pin TSSOP; Published: 16-Dec-2005; DatasheetVersion: 13-Sep-2005; PackageVersion: Feb-1999; PackageReference: PW020; Publisher: Altium Limited; PackageDescription: Shrink Small Outline; 20 Leads; Body Width 4.4 mm; Pitch 0.65 mm; ComponentLink1Description: Manufacturer Link; ComponentLink1URL: http://www.ti.com/; ComponentLink2Description: Datasheet; ComponentLink2URL: http://focus.ti.com/lit/ds/symlink/tlv320aic1107.pdf
footprint PW020 (Shrink Small Outline; 20 Leads; Body Width 4.4 mm; Pitch 0.65 mm)
pins: 1 MICMUTE (in) "Microphone mute", 2 ~{RESET} (in) "Active-low reset", 3 VSS (power) "Ground return for band-gap internal reference", 4 EARVSS (power) "Analog ground for EAROUT+", 5 EAROUT+ (out) "Earphone amplifier positive output", 6 EARVDD (power) "Analog positive power supply for the earphone amplifiers", 7 EAROUT- (out) "Earphone amplifier negative output", 8 EARVSS (power) "Analog ground for EAROUT-", 9 MICGAIN+ (in) "Microphone gain positive feedback", 10 MICIN- (in) "Microphone negative input (-)", 11 MICIN+ (in) "Microphone positive input (+)", 12 MICGAIN- (in) "Microphone gain negative feedback", 13 ~{LINSEL} (in) "Companding enable", 14 DVDD (power) "Digital positive power supply", 15 DVSS (power) "Digital negative power supply", 16 PCMI (in) "Receive PCM input", 17 PCMO (out) "Transmit PCM output", 18 PCMSYNC (in) "PCM frame synchronization", 19 MCLK (in) "Master system clock input (2.048 MHz) (digital)", 20 EARMUTE (in) "Earphone mute"

## TLV320AIC1107PWR
designator U?
PCM CODEC With Microphone Amps & Speaker Driver, 20-Pin TSSOP; Published: 16-Dec-2005; DatasheetVersion: 13-Sep-2005; PackageVersion: Feb-1999; PackageReference: PW020; Publisher: Altium Limited; PackageDescription: Shrink Small Outline; 20 Leads; Body Width 4.4 mm; Pitch 0.65 mm; ComponentLink1Description: Manufacturer Link; ComponentLink1URL: http://www.ti.com/; ComponentLink2Description: Datasheet; ComponentLink2URL: http://focus.ti.com/lit/ds/symlink/tlv320aic1107.pdf
footprint PW020 (Shrink Small Outline; 20 Leads; Body Width 4.4 mm; Pitch 0.65 mm)
pins: 1 MICMUTE (in) "Microphone mute", 2 ~{RESET} (in) "Active-low reset", 3 VSS (power) "Ground return for band-gap internal reference", 4 EARVSS (power) "Analog ground for EAROUT+", 5 EAROUT+ (out) "Earphone amplifier positive output", 6 EARVDD (power) "Analog positive power supply for the earphone amplifiers", 7 EAROUT- (out) "Earphone amplifier negative output", 8 EARVSS (power) "Analog ground for EAROUT-", 9 MICGAIN+ (in) "Microphone gain positive feedback", 10 MICIN- (in) "Microphone negative input (-)", 11 MICIN+ (in) "Microphone positive input (+)", 12 MICGAIN- (in) "Microphone gain negative feedback", 13 ~{LINSEL} (in) "Companding enable", 14 DVDD (power) "Digital positive power supply", 15 DVSS (power) "Digital negative power supply", 16 PCMI (in) "Receive PCM input", 17 PCMO (out) "Transmit PCM output", 18 PCMSYNC (in) "PCM frame synchronization", 19 MCLK (in) "Master system clock input (2.048 MHz) (digital)", 20 EARMUTE (in) "Earphone mute"

## TLV320AIC1107PWRG4
designator U?
PCM CODEC With Microphone Amps & Speaker Driver, 20-Pin TSSOP; Published: 16-Dec-2005; DatasheetVersion: 13-Sep-2005; PackageVersion: Feb-1999; PackageReference: PW020; Publisher: Altium Limited; PackageDescription: Shrink Small Outline; 20 Leads; Body Width 4.4 mm; Pitch 0.65 mm; ComponentLink1Description: Manufacturer Link; ComponentLink1URL: http://www.ti.com/; ComponentLink2Description: Datasheet; ComponentLink2URL: http://focus.ti.com/lit/ds/symlink/tlv320aic1107.pdf
footprint PW020 (Shrink Small Outline; 20 Leads; Body Width 4.4 mm; Pitch 0.65 mm)
pins: 1 MICMUTE (in) "Microphone mute", 2 ~{RESET} (in) "Active-low reset", 3 VSS (power) "Ground return for band-gap internal reference", 4 EARVSS (power) "Analog ground for EAROUT+", 5 EAROUT+ (out) "Earphone amplifier positive output", 6 EARVDD (power) "Analog positive power supply for the earphone amplifiers", 7 EAROUT- (out) "Earphone amplifier negative output", 8 EARVSS (power) "Analog ground for EAROUT-", 9 MICGAIN+ (in) "Microphone gain positive feedback", 10 MICIN- (in) "Microphone negative input (-)", 11 MICIN+ (in) "Microphone positive input (+)", 12 MICGAIN- (in) "Microphone gain negative feedback", 13 ~{LINSEL} (in) "Companding enable", 14 DVDD (power) "Digital positive power supply", 15 DVSS (power) "Digital negative power supply", 16 PCMI (in) "Receive PCM input", 17 PCMO (out) "Transmit PCM output", 18 PCMSYNC (in) "PCM frame synchronization", 19 MCLK (in) "Master system clock input (2.048 MHz) (digital)", 20 EARMUTE (in) "Earphone mute"

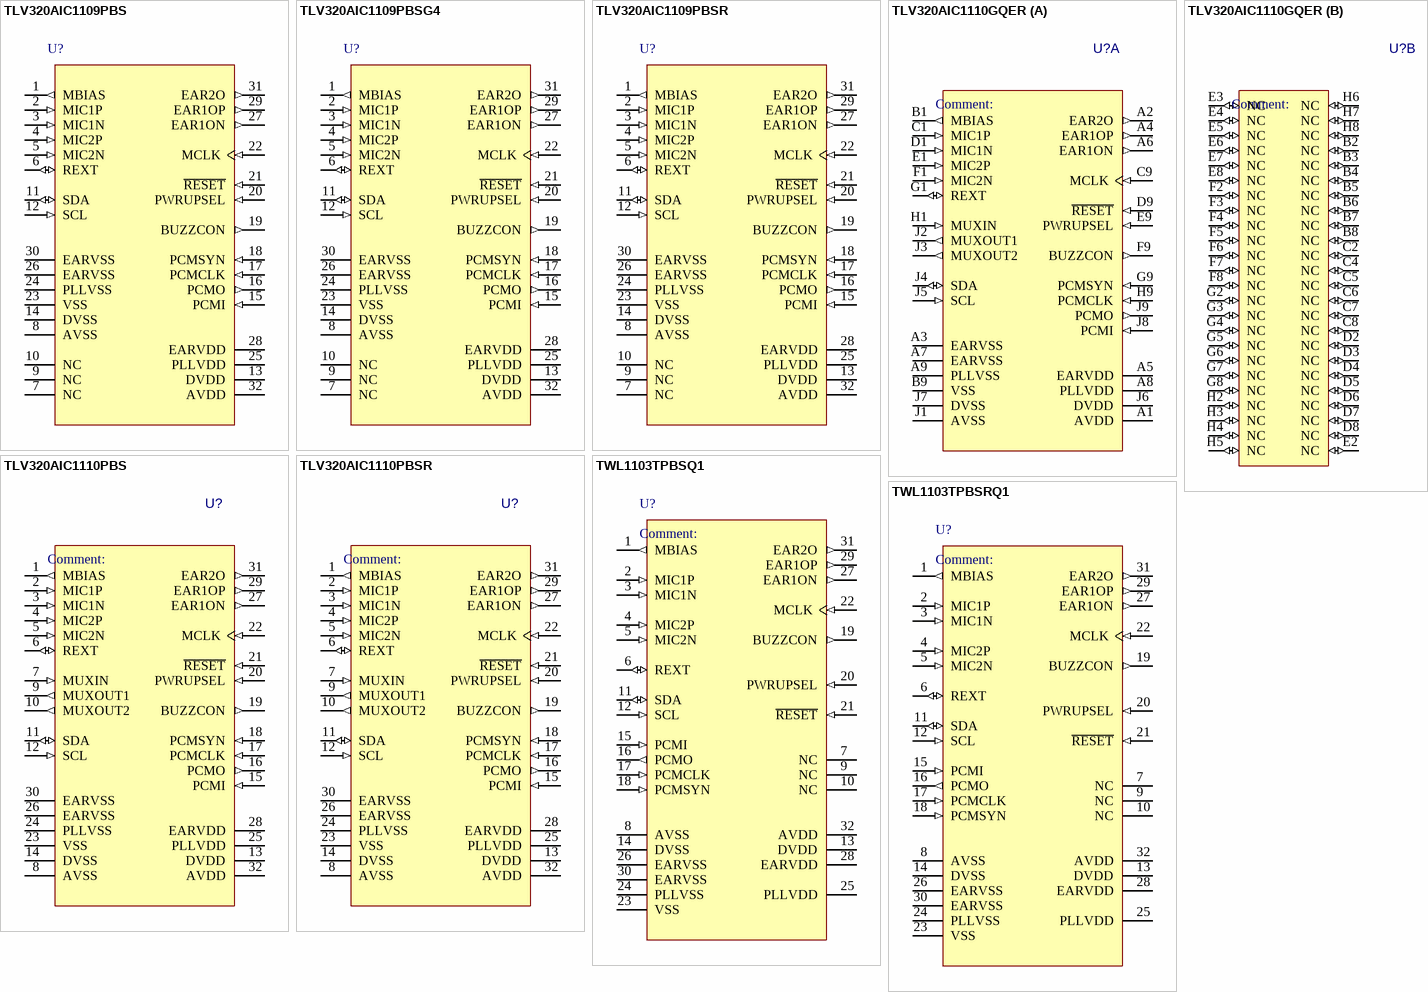
[diagram p9: symbols TLV320AIC1109PBS to TWL1103TPBSRQ1]

## TLV320AIC1109PBS
designator U?
Programmable PCM CODEC With Microphone Amps & Speaker Driver, 32-Pin TQFP; Published: 16-Dec-2005; LatestRevisionDate: 13-Apr-2006; LatestRevisionNote: IPC-7351 Footprint Added.; DatasheetVersion: 13-Sep-2005; PackageVersion: Nov-1995; PackageReference: PBS32; Publisher: Altium Limited; PackageDescription: 32-Pin Thin Plastic Quad Flat Pack 0.5 mm Pitch; Code_JEDEC: MS-026-AAA; ComponentLink1Description: Manufacturer Link; ComponentLink1URL: http://www.ti.com/; ComponentLink2Description: Datasheet; ComponentLink2URL: http://focus.ti.com/lit/ds/symlink/tlv320aic1109.pdf
footprint PBS32_N (Thin QFP, 32-Leads, Body 5x5mm, Pitch 0.5mm, IPC Medium Density)
footprint PBS32_L (Thin QFP, 32-Leads, Body 5x5mm, Pitch 0.5mm, IPC High Density)
footprint PBS32_M (Thin QFP, 32-Leads, Body 5x5mm, Pitch 0.5mm, IPC Low Density)
pins: 1 MBIAS (out) "Microphone bias supply output, no decoupling capacitors", 2 MIC1P (in) "MIC1 input (+)", 3 MIC1N (in) "MIC1 input (-)", 4 MIC2P (in) "MIC2 input (+)", 5 MIC2N (in) "MIC2 input (-)", 6 REXT (io) "Internal reference current setting terminal", 7 NC "No connection", 8 AVSS (power) "Analog negative power supply", 9 NC "No connection", 10 NC "No connection", 11 SDA (io) "I2C-bus serial address/data input/output", 12 SCL (in) "I2C-bus serial clock", 13 DVDD (power) "Digital positive power supply", 14 DVSS (power) "Digital negative power supply", 15 PCMI (in) "Receive PCM input", 16 PCMO (out) "Transmit PCM output", 17 PCMCLK (in) "PCM data clock", 18 PCMSYN (in) "PCM frame synchronization", 19 BUZZCON (out) "Buzzer output, a pulse-density modulated signal to apply to external buzzer driver", 20 PWRUPSEL (in) "Selects the power-up default mode", 21 ~{RESET} (in) "Active low reset", 22 MCLK (in) "Master system clock input (2.048 MHz) (digital)", 23 VSS (power) "Ground return for bandgap internal reference", 24 PLLVSS (power) "PLL negative power supply", 25 PLLVDD (power) "PLL digital power supply", 26 EARVSS (power) "Analog negative power supply for the earphone amplifiers", 27 EAR1ON (out) "Earphone 1 amplifier output (-)", 28 EARVDD (power) "Analog positive power supply for the earphone amplifiers", 29 EAR1OP (out) "Earphone 1 amplifier output (+)", 30 EARVSS (power) "Analog negative power supply for the earphone amplifiers", 31 EAR2O (out) "Earphone 2 amplifier output", 32 AVDD (power) "Analog positive power supply"

## TLV320AIC1109PBSG4
designator U?
Programmable PCM CODEC With Microphone Amps & Speaker Driver, 32-Pin TQFP; Published: 16-Dec-2005; LatestRevisionDate: 13-Apr-2006; LatestRevisionNote: IPC-7351 Footprint Added.; DatasheetVersion: 13-Sep-2005; PackageVersion: Nov-1995; PackageReference: PBS32; Publisher: Altium Limited; PackageDescription: 32-Pin Thin Plastic Quad Flat Pack 0.5 mm Pitch; Code_JEDEC: MS-026-AAA; ComponentLink1Description: Manufacturer Link; ComponentLink1URL: http://www.ti.com/; ComponentLink2Description: Datasheet; ComponentLink2URL: http://focus.ti.com/lit/ds/symlink/tlv320aic1109.pdf
footprint PBS32_N (Thin QFP, 32-Leads, Body 5x5mm, Pitch 0.5mm, IPC Medium Density)
footprint PBS32_L (Thin QFP, 32-Leads, Body 5x5mm, Pitch 0.5mm, IPC High Density)
footprint PBS32_M (Thin QFP, 32-Leads, Body 5x5mm, Pitch 0.5mm, IPC Low Density)
pins: 1 MBIAS (out) "Microphone bias supply output, no decoupling capacitors", 2 MIC1P (in) "MIC1 input (+)", 3 MIC1N (in) "MIC1 input (-)", 4 MIC2P (in) "MIC2 input (+)", 5 MIC2N (in) "MIC2 input (-)", 6 REXT (io) "Internal reference current setting terminal", 7 NC "No connection", 8 AVSS (power) "Analog negative power supply", 9 NC "No connection", 10 NC "No connection", 11 SDA (io) "I2C-bus serial address/data input/output", 12 SCL (in) "I2C-bus serial clock", 13 DVDD (power) "Digital positive power supply", 14 DVSS (power) "Digital negative power supply", 15 PCMI (in) "Receive PCM input", 16 PCMO (out) "Transmit PCM output", 17 PCMCLK (in) "PCM data clock", 18 PCMSYN (in) "PCM frame synchronization", 19 BUZZCON (out) "Buzzer output, a pulse-density modulated signal to apply to external buzzer driver", 20 PWRUPSEL (in) "Selects the power-up default mode", 21 ~{RESET} (in) "Active low reset", 22 MCLK (in) "Master system clock input (2.048 MHz) (digital)", 23 VSS (power) "Ground return for bandgap internal reference", 24 PLLVSS (power) "PLL negative power supply", 25 PLLVDD (power) "PLL digital power supply", 26 EARVSS (power) "Analog negative power supply for the earphone amplifiers", 27 EAR1ON (out) "Earphone 1 amplifier output (-)", 28 EARVDD (power) "Analog positive power supply for the earphone amplifiers", 29 EAR1OP (out) "Earphone 1 amplifier output (+)", 30 EARVSS (power) "Analog negative power supply for the earphone amplifiers", 31 EAR2O (out) "Earphone 2 amplifier output", 32 AVDD (power) "Analog positive power supply"

## TLV320AIC1109PBSR
designator U?
Programmable PCM CODEC With Microphone Amps & Speaker Driver, 32-Pin TQFP; Published: 16-Dec-2005; LatestRevisionDate: 13-Apr-2006; LatestRevisionNote: IPC-7351 Footprint Added.; DatasheetVersion: 13-Sep-2005; PackageVersion: Nov-1995; PackageReference: PBS32; Publisher: Altium Limited; PackageDescription: 32-Pin Thin Plastic Quad Flat Pack 0.5 mm Pitch; Code_JEDEC: MS-026-AAA; ComponentLink1Description: Manufacturer Link; ComponentLink1URL: http://www.ti.com/; ComponentLink2Description: Datasheet; ComponentLink2URL: http://focus.ti.com/lit/ds/symlink/tlv320aic1109.pdf
footprint PBS32_N (Thin QFP, 32-Leads, Body 5x5mm, Pitch 0.5mm, IPC Medium Density)
footprint PBS32_L (Thin QFP, 32-Leads, Body 5x5mm, Pitch 0.5mm, IPC High Density)
footprint PBS32_M (Thin QFP, 32-Leads, Body 5x5mm, Pitch 0.5mm, IPC Low Density)
pins: 1 MBIAS (out) "Microphone bias supply output, no decoupling capacitors", 2 MIC1P (in) "MIC1 input (+)", 3 MIC1N (in) "MIC1 input (-)", 4 MIC2P (in) "MIC2 input (+)", 5 MIC2N (in) "MIC2 input (-)", 6 REXT (io) "Internal reference current setting terminal", 7 NC "No connection", 8 AVSS (power) "Analog negative power supply", 9 NC "No connection", 10 NC "No connection", 11 SDA (io) "I2C-bus serial address/data input/output", 12 SCL (in) "I2C-bus serial clock", 13 DVDD (power) "Digital positive power supply", 14 DVSS (power) "Digital negative power supply", 15 PCMI (in) "Receive PCM input", 16 PCMO (out) "Transmit PCM output", 17 PCMCLK (in) "PCM data clock", 18 PCMSYN (in) "PCM frame synchronization", 19 BUZZCON (out) "Buzzer output, a pulse-density modulated signal to apply to external buzzer driver", 20 PWRUPSEL (in) "Selects the power-up default mode", 21 ~{RESET} (in) "Active low reset", 22 MCLK (in) "Master system clock input (2.048 MHz) (digital)", 23 VSS (power) "Ground return for bandgap internal reference", 24 PLLVSS (power) "PLL negative power supply", 25 PLLVDD (power) "PLL digital power supply", 26 EARVSS (power) "Analog negative power supply for the earphone amplifiers", 27 EAR1ON (out) "Earphone 1 amplifier output (-)", 28 EARVDD (power) "Analog positive power supply for the earphone amplifiers", 29 EAR1OP (out) "Earphone 1 amplifier output (+)", 30 EARVSS (power) "Analog negative power supply for the earphone amplifiers", 31 EAR2O (out) "Earphone 2 amplifier output", 32 AVDD (power) "Analog positive power supply"

## TLV320AIC1110GQER
designator U?
Programmable PCM CODEC With Microphone Amps & Speaker Driver, 80-pin MicroStar Junior VFBGA; Published: 16-Dec-2005; LatestRevisionDate: 13-Apr-2006; LatestRevisionNote: IPC-7351 Footprint Added.; DatasheetVersion: 16-May-2005; PackageVersion: Oct-2005; PackageReference: GQE80; Publisher: Altium Limited; PackageDescription: 80-Ball Plastic Ball Grid Array 0.5 mm Pitch; Code_JEDEC: MO-225; ComponentLink1Description: Manufacturer Link; ComponentLink1URL: http://www.ti.com/; ComponentLink2Description: Datasheet; ComponentLink2URL: http://focus.ti.com/lit/ds/symlink/tlv320aic1110.pdf
footprint GQE80 (BGA, 80-Leads, Body 5x5mm, Pitch 0.5mm)
part A pins: A1 AVDD (power) "Analog positive power supply", A2 EAR2O (out) "Earphone 2 amplifier output", A3 EARVSS (power) "Analog negative power supply for the earphone amplifiers", A4 EAR1OP (out) "Earphone 1 amplifier output (+)", A5 EARVDD (power) "Analog positive power supply for the earphone amplifiers", A6 EAR1ON (out) "Earphone 1 amplifier output (-)", A7 EARVSS (power) "Analog negative power supply for the earphone amplifiers", A8 PLLVDD (power) "PLL digital power supply", A9 PLLVSS (power) "PLL negative power supply", B1 MBIAS (out) "Microphone bias supply output, no decoupling capacitors", B9 VSS (power) "Ground return for bandgap internal reference (use for ground connection)", C1 MIC1P (in) "MIC1 input (+)", C9 MCLK (in) "Master system clock input (2.048 MHz, digital)", D1 MIC1N (in) "MIC1 input (-)", D9 ~{RESET} (in) "Active low reset", E1 MIC2P (in) "MIC2 input (+)", E9 PWRUPSEL (in) "Selects the power-up default mode", F1 MIC2N (in) "MIC2 input (-)", F9 BUZZCON (out) "Buzzer output, a pulse-density modulated signal to apply to external buzzer driver", G1 REXT (io) "Internal reference current setting terminal (use precision 100-k?resistor and no filtering capacitors)", G9 PCMSYN (in) "PCM frame sync", H1 MUXIN (in) "Analog MUX input", H9 PCMCLK (in) "PCM data clock", J1 AVSS (power) "Analog negative power supply (use for ground connection)", J2 MUXOUT1 (out) "Analog MUX output", J3 MUXOUT2 (out) "Analog MUX output", J4 SDA (io) "I2C-bus serial address/data input/output.", J5 SCL (in) "I2C-bus serial clock. This input is used to synchronize the data transfer from and to the PCM codec.", J6 DVDD (power) "Digital positive power supply", J7 DVSS (power) "Digital negative power supply", J8 PCMI (in) "Receive PCM input", J9 PCMO (out) "Transmit PCM output"
part B pins: B2 NC (io), B3 NC (io), B4 NC (io), B5 NC (io), B6 NC (io), B7 NC (io), B8 NC (io), C2 NC (io), C4 NC (io), C5 NC (io), C6 NC (io), C7 NC (io), C8 NC (io), D2 NC (io), D3 NC (io), D4 NC (io), D5 NC (io), D6 NC (io), D7 NC (io), D8 NC (io), E2 NC (io), E3 NC (io), E4 NC (io), E5 NC (io), E6 NC (io), E7 NC (io), E8 NC (io), F2 NC (io), F3 NC (io), F4 NC (io), F5 NC (io), F6 NC (io), F7 NC (io), F8 NC (io), G2 NC (io), G3 NC (io), G4 NC (io), G5 NC (io), G6 NC (io), G7 NC (io), G8 NC (io), H2 NC (io), H3 NC (io), H4 NC (io), H5 NC (io), H6 NC (io), H7 NC (io), H8 NC (io)

## TLV320AIC1110PBS
designator U?
Programmable PCM CODEC With Microphone Amps & Speaker Driver, 32-Pin TQFP; Published: 16-Dec-2005; LatestRevisionDate: 13-Apr-2006; LatestRevisionNote: IPC-7351 Footprint Added.; DatasheetVersion: 16-May-2005; PackageVersion: Nov-1995; PackageReference: PBS32; Publisher: Altium Limited; PackageDescription: 32-Pin Thin Plastic Quad Flat Pack 0.5 mm Pitch; Code_JEDEC: MS-026-AAA; ComponentLink1Description: Manufacturer Link; ComponentLink1URL: http://www.ti.com/; ComponentLink2Description: Datasheet; ComponentLink2URL: http://focus.ti.com/lit/ds/symlink/tlv320aic1110.pdf
footprint PBS32_N (Thin QFP, 32-Leads, Body 5x5mm, Pitch 0.5mm, IPC Medium Density)
footprint PBS32_L (Thin QFP, 32-Leads, Body 5x5mm, Pitch 0.5mm, IPC High Density)
footprint PBS32_M (Thin QFP, 32-Leads, Body 5x5mm, Pitch 0.5mm, IPC Low Density)
pins: 1 MBIAS (out) "Microphone bias supply output, no decoupling capacitors", 2 MIC1P (in) "MIC1 input (+)", 3 MIC1N (in) "MIC1 input (-)", 4 MIC2P (in) "MIC2 input (+)", 5 MIC2N (in) "MIC2 input (-)", 6 REXT (io) "Internal reference current setting terminal (use precision 100-k?resistor and no filtering capacitors)", 7 MUXIN (in) "Analog MUX input", 8 AVSS (power) "Analog negative power supply (use for ground connection)", 9 MUXOUT1 (out) "Analog MUX output", 10 MUXOUT2 (out) "Analog MUX output", 11 SDA (io) "I2C-bus serial address/data input/output.", 12 SCL (in) "I2C-bus serial clock. This input is used to synchronize the data transfer from and to the PCM codec.", 13 DVDD (power) "Digital positive power supply", 14 DVSS (power) "Digital negative power supply", 15 PCMI (in) "Receive PCM input", 16 PCMO (out) "Transmit PCM output", 17 PCMCLK (in) "PCM data clock", 18 PCMSYN (in) "PCM frame sync", 19 BUZZCON (out) "Buzzer output, a pulse-density modulated signal to apply to external buzzer driver", 20 PWRUPSEL (in) "Selects the power-up default mode", 21 ~{RESET} (in) "Active low reset", 22 MCLK (in) "Master system clock input (2.048 MHz, digital)", 23 VSS (power) "Ground return for bandgap internal reference (use for ground connection)", 24 PLLVSS (power) "PLL negative power supply", 25 PLLVDD (power) "PLL digital power supply", 26 EARVSS (power) "Analog negative power supply for the earphone amplifiers", 27 EAR1ON (out) "Earphone 1 amplifier output (-)", 28 EARVDD (power) "Analog positive power supply for the earphone amplifiers", 29 EAR1OP (out) "Earphone 1 amplifier output (+)", 30 EARVSS (power) "Analog negative power supply for the earphone amplifiers", 31 EAR2O (out) "Earphone 2 amplifier output", 32 AVDD (power) "Analog positive power supply"